# Altium footprint library WR-TBL_Pluggable Connector_2.50mm.PcbLib: 41 footprints (part 3 of 3)
Each footprint in its own frame and in the unit in brackets; x right, y up, seen from the top. Pads: shape width x height; smd on the part's side, far side on the other; paste and mask are expansions set on the pad; w line width, h text height; cw(c..) or ccw(c..) is an arc to the next point about the centre after c.
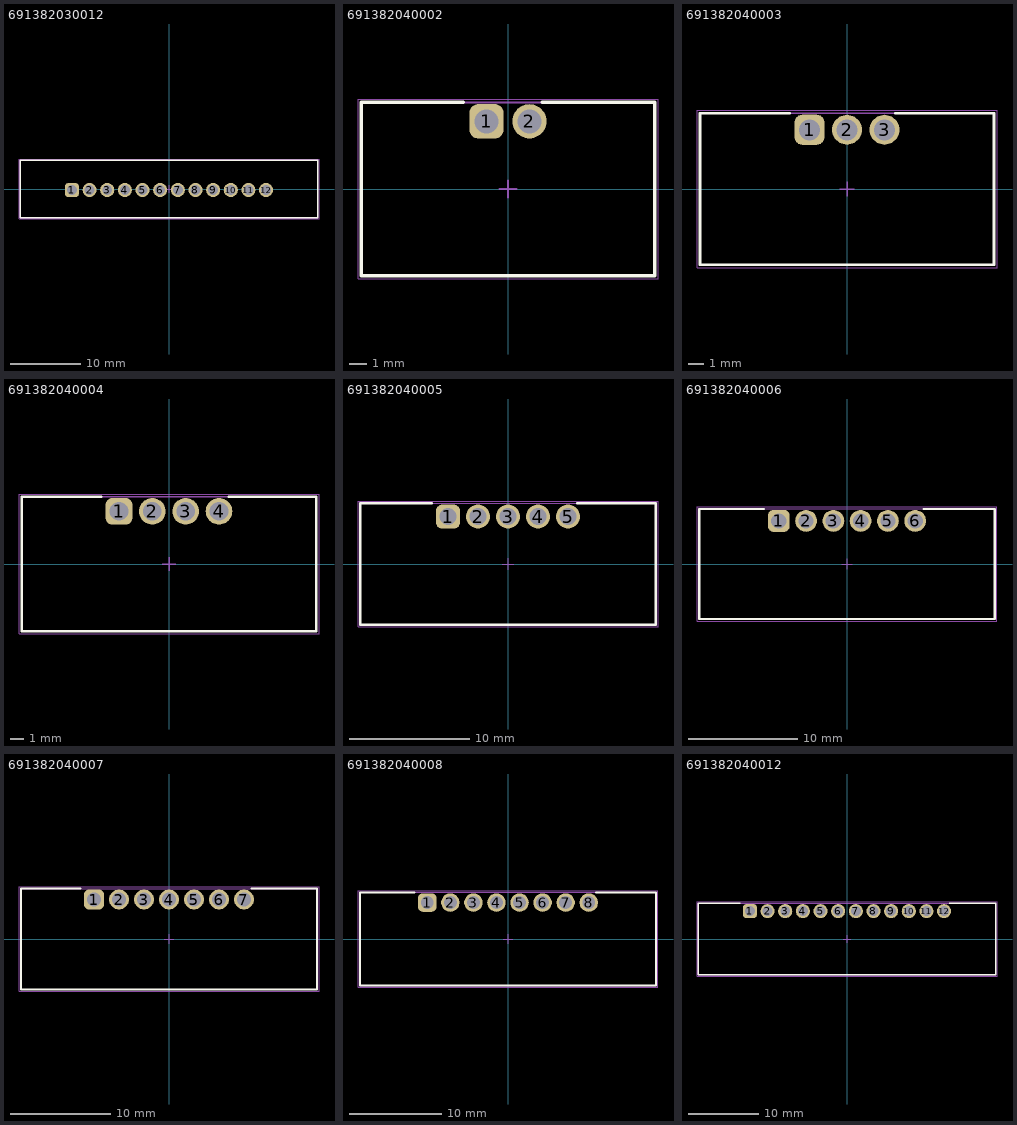
[diagram p2: the footprints below, top view; thin cyan lines are the x and y axes]

## 691382030012 [mm] "Vertical PCB Header with Flanges, pitch 2.5mm, 12p"
height 10.1
pads (12):
  rrect50% 2x2 hole 1.4: 1(-13.75,-0.15)
  round 2 hole 1.4: 2(-11.25,-0.15) 3(-8.75,-0.15) 4(-6.25,-0.15) 5(-3.75,-0.15) 6(-1.25,-0.15) 7(1.25,-0.15) 8(3.75,-0.15) 9(6.25,-0.15) 10(8.75,-0.15) 11(11.25,-0.15) 12(13.75,-0.15)
Top Overlay:
  lines w0.2: -21.05,-4.05 21.05,-4.05 21.05,4.05 -21.05,4.05 -21.05,-4.05
Top Assembly:
  lines w0.1: -21.05,-4.05 -21.05,4.05 21.05,4.05 21.05,-4.05 -21.05,-4.05
Top Designator:
  text ".Designator" at -3.647,-0.357 h1
Top 3D Body:
  lines w0.1: -21.05,-4.05 21.05,-4.05 21.05,4.05 -21.05,4.05 -21.05,-4.05
Top Courtyard:
  lines w0.05: -21.25,-4.25 -21.25,4.25 21.25,4.25 21.25,-4.25 -21.25,-4.25
Top Component Center:
  lines w0.1: -0.5,0 0.5,0 ; 0,-0.5 0,0.5
3D body "691382030012.stp": height 10.2, standoff -3.4, extent -21.05,-4.05 21.05,4.05

## 691382040002 [mm] "Horizontal PCB Header with Flanges, pitch 2.5mm, 02p"
height 8.1
pads (2):
  rrect50% 2x2 hole 1.4: 1(-1.25,3.95)
  round 2 hole 1.4: 2(1.25,3.95)
Top Overlay:
  lines w0.2: -2.6,5.05 -8.55,5.05 -8.55,-5.05 8.55,-5.05 8.55,5.05 2,5.05
Top Assembly:
  lines w0.1: -8.55,-5.05 -8.55,5.05 8.55,5.05 8.55,-5.05 -8.55,-5.05
Top Designator:
  text ".Designator" at -3.647,-0.357 h1
Top 3D Body:
  lines w0.1: -8.55,-5.05 8.55,-5.05 8.55,5.05 -8.55,5.05 -8.55,-5.05
Top Courtyard:
  lines w0.05: -8.75,-5.25 -8.75,5.25 8.75,5.25 8.75,-5.25 -8.75,-5.25
Top Component Center:
  lines w0.1: -0.5,0 0.5,0 ; 0,-0.5 0,0.5
3D body "691382040002.stp": height 8.15, standoff -3.45, extent -8.55,-5.05 8.55,5.05

## 691382040003 [mm] "Horizontal PCB Header with Flanges, pitch 2.5mm, 03p"
height 8.1
pads (3):
  rrect50% 2x2 hole 1.4: 1(-2.5,3.95)
  round 2 hole 1.4: 2(0,3.95) 3(2.5,3.95)
Top Overlay:
  lines w0.2: -3.85,5.05 -9.8,5.05 -9.8,-5.05 9.8,-5.05 9.8,5.05 3.25,5.05
Top Assembly:
  lines w0.1: -9.8,-5.05 9.8,-5.05 9.8,5.05 -9.8,5.05 -9.8,-5.05
Top Designator:
  text ".Designator" at -3.647,-0.357 h1
Top 3D Body:
  lines w0.1: -9.8,-5.05 -9.8,5.05 9.8,5.05 9.8,-5.05 -9.8,-5.05
Top Courtyard:
  lines w0.05: -10,-5.25 10,-5.25 10,5.25 -10,5.25 -10,-5.25
Top Component Center:
  lines w0.1: -0.5,0 0.5,0 ; 0,-0.5 0,0.5
3D body "691382040003.stp": height 8.15, standoff -3.45, extent -9.8,-5.05 9.8,5.05

## 691382040004 [mm] "Horizontal PCB Header with Flanges, pitch 2.5mm, 04p"
height 8.1
pads (4):
  rrect50% 2x2 hole 1.4: 1(-3.75,3.95)
  round 2 hole 1.4: 2(-1.25,3.95) 3(1.25,3.95) 4(3.75,3.95)
Top Overlay:
  lines w0.2: -5.1,5.05 -11.05,5.05 -11.05,-5.05 11.05,-5.05 11.05,5.05 4.5,5.05
Top Assembly:
  lines w0.1: -11.05,-5.05 -11.05,5.05 11.05,5.05 11.05,-5.05 -11.05,-5.05
Top Designator:
  text ".Designator" at -3.647,-0.357 h1
Top 3D Body:
  lines w0.1: -11.05,-5.05 11.05,-5.05 11.05,5.05 -11.05,5.05 -11.05,-5.05
Top Courtyard:
  lines w0.05: -11.25,-5.25 -11.25,5.25 11.25,5.25 11.25,-5.25 -11.25,-5.25
Top Component Center:
  lines w0.1: -0.5,0 0.5,0 ; 0,-0.5 0,0.5
3D body "691382040004.stp": height 8.15, standoff -3.45, extent -11.05,-5.05 11.05,5.05

## 691382040005 [mm] "Horizontal PCB Header with Flanges, pitch 2.5mm, 05p"
height 8.1
pads (5):
  rrect50% 2x2 hole 1.4: 1(-5,3.95)
  round 2 hole 1.4: 2(-2.5,3.95) 3(0,3.95) 4(2.5,3.95) 5(5,3.95)
Top Overlay:
  lines w0.2: -6.35,5.05 -12.3,5.05 -12.3,-5.05 12.3,-5.05 12.3,5.05 5.75,5.05
Top Assembly:
  lines w0.1: -12.3,-5.05 12.3,-5.05 12.3,5.05 -12.3,5.05 -12.3,-5.05
Top Designator:
  text ".Designator" at -3.647,-0.357 h1
Top 3D Body:
  lines w0.1: -12.3,-5.05 -12.3,5.05 12.3,5.05 12.3,-5.05 -12.3,-5.05
Top Courtyard:
  lines w0.05: -12.5,-5.25 12.5,-5.25 12.5,5.25 -12.5,5.25 -12.5,-5.25
Top Component Center:
  lines w0.1: -0.5,0 0.5,0 ; 0,-0.5 0,0.5
3D body "691382040005.stp": height 8.15, standoff -3.45, extent -12.3,-5.05 12.3,5.05

## 691382040006 [mm] "Horizontal PCB Header with Flanges, pitch 2.5mm, 06p"
height 8.1
pads (6):
  rrect50% 2x2 hole 1.4: 1(-6.25,3.95)
  round 2 hole 1.4: 2(-3.75,3.95) 3(-1.25,3.95) 4(1.25,3.95) 5(3.75,3.95) 6(6.25,3.95)
Top Overlay:
  lines w0.2: -7.6,5.05 -13.55,5.05 -13.55,-5.05 13.55,-5.05 13.55,5.05 7,5.05
Top Assembly:
  lines w0.1: -13.55,-5.05 13.55,-5.05 13.55,5.05 -13.55,5.05 -13.55,-5.05
Top Designator:
  text ".Designator" at -3.647,-0.357 h1
Top 3D Body:
  lines w0.1: -13.55,-5.05 -13.55,5.05 13.55,5.05 13.55,-5.05 -13.55,-5.05
Top Courtyard:
  lines w0.05: -13.75,-5.25 13.75,-5.25 13.75,5.25 -13.75,5.25 -13.75,-5.25
Top Component Center:
  lines w0.1: -0.5,0 0.5,0 ; 0,-0.5 0,0.5
3D body "691382040006.stp": height 8.15, standoff -3.45, extent -13.55,-5.05 13.55,5.05

## 691382040007 [mm] "Horizontal PCB Header with Flanges, pitch 2.5mm, 07p"
height 8.1
pads (7):
  rrect50% 2x2 hole 1.4: 1(-7.5,3.95)
  round 2 hole 1.4: 2(-5,3.95) 3(-2.5,3.95) 4(0,3.95) 5(2.5,3.95) 6(5,3.95) 7(7.5,3.95)
Top Overlay:
  lines w0.2: -8.85,5.05 -14.8,5.05 -14.8,-5.05 14.8,-5.05 14.8,5.05 8.25,5.05
Top Assembly:
  lines w0.1: -14.8,-5.05 -14.8,5.05 14.8,5.05 14.8,-5.05 -14.8,-5.05
Top Designator:
  text ".Designator" at -3.647,-0.357 h1
Top 3D Body:
  lines w0.1: -14.8,-5.05 14.8,-5.05 14.8,5.05 -14.8,5.05 -14.8,-5.05
Top Courtyard:
  lines w0.05: -15,-5.25 -15,5.25 15,5.25 15,-5.25 -15,-5.25
Top Component Center:
  lines w0.1: -0.5,0 0.5,0 ; 0,-0.5 0,0.5
3D body "691382040007.stp": height 8.15, standoff -3.45, extent -14.8,-5.05 14.8,5.05

## 691382040008 [mm] "Horizontal PCB Header with Flanges, pitch 2.5mm, 08p"
height 8.1
pads (8):
  rrect50% 2x2 hole 1.4: 1(-8.75,3.95)
  round 2 hole 1.4: 2(-6.25,3.95) 3(-3.75,3.95) 4(-1.25,3.95) 5(1.25,3.95) 6(3.75,3.95) 7(6.25,3.95) 8(8.75,3.95)
Top Overlay:
  lines w0.2: -10.1,5.05 -16.05,5.05 -16.05,-5.05 16.05,-5.05 16.05,5.05 9.5,5.05
Top Assembly:
  lines w0.1: -16.05,-5.05 -16.05,5.05 16.05,5.05 16.05,-5.05 -16.05,-5.05
Top Designator:
  text ".Designator" at -3.647,-0.357 h1
Top 3D Body:
  lines w0.1: -16.05,-5.05 16.05,-5.05 16.05,5.05 -16.05,5.05 -16.05,-5.05
Top Courtyard:
  lines w0.05: -16.25,-5.25 -16.25,5.25 16.25,5.25 16.25,-5.25 -16.25,-5.25
Top Component Center:
  lines w0.1: -0.5,0 0.5,0 ; 0,-0.5 0,0.5
3D body "691382040008.stp": height 8.15, standoff -3.45, extent -16.05,-5.05 16.05,5.05

## 691382040012 [mm] "Horizontal PCB Header with Flanges, pitch 2.5mm, 12p"
height 8.1
pads (12):
  rrect50% 2x2 hole 1.4: 1(-13.75,3.95)
  round 2 hole 1.4: 2(-11.25,3.95) 3(-8.75,3.95) 4(-6.25,3.95) 5(-3.75,3.95) 6(-1.25,3.95) 7(1.25,3.95) 8(3.75,3.95) 9(6.25,3.95) 10(8.75,3.95) 11(11.25,3.95) 12(13.75,3.95)
Top Overlay:
  lines w0.2: -15.1,5.05 -21.05,5.05 -21.05,-5.05 21.05,-5.05 21.05,5.05 14.5,5.05
Top Assembly:
  lines w0.1: -21.05,-5.05 -21.05,5.05 21.05,5.05 21.05,-5.05 -21.05,-5.05
Top Designator:
  text ".Designator" at -3.647,-0.357 h1
Top 3D Body:
  lines w0.1: -21.05,-5.05 21.05,-5.05 21.05,5.05 -21.05,5.05 -21.05,-5.05
Top Courtyard:
  lines w0.05: -21.25,-5.25 -21.25,5.25 21.25,5.25 21.25,-5.25 -21.25,-5.25
Top Component Center:
  lines w0.1: -0.5,0 0.5,0 ; 0,-0.5 0,0.5
3D body "691382040012.stp": height 8.15, standoff -3.45, extent -21.05,-5.05 21.05,5.05